# EAGLE library part NOO_AT32U2_MODULE (library PCB-Outlines)
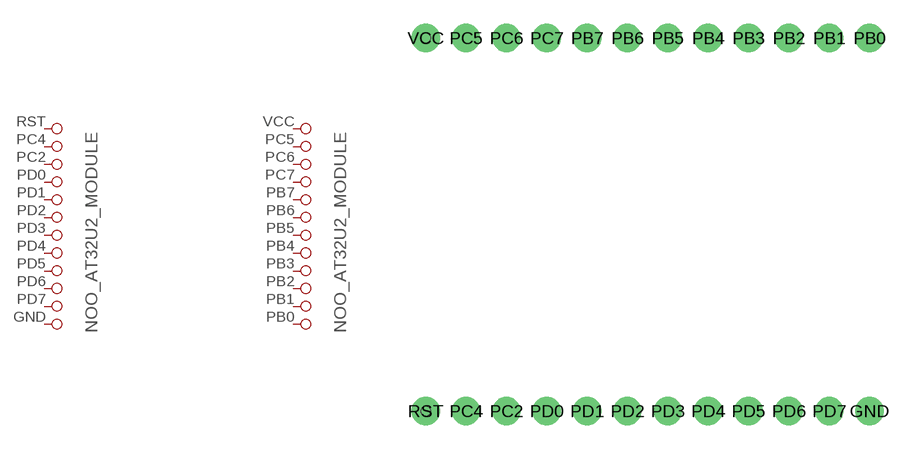
[diagram p0: symbol with the pads of NOO_AT32U2; footprint NOO_AT32U2]

Designator prefix -; gates G$1=PINHD12 G$2=PINHD12

## NOO_AT32U2_MODULE  [NOO_AT32U2]
GND  G$1:12  pas
PB0  G$2:12  pas
PB1  G$2:11  pas
PB2  G$2:10  pas
PB3  G$2:9  pas
PB4  G$2:8  pas
PB5  G$2:7  pas
PB6  G$2:6  pas
PB7  G$2:5  pas
PC2  G$1:3  pas
PC4  G$1:2  pas
PC5  G$2:2  pas
PC6  G$2:3  pas
PC7  G$2:4  pas
PD0  G$1:4  pas
PD1  G$1:5  pas
PD2  G$1:6  pas
PD3  G$1:7  pas
PD4  G$1:8  pas
PD5  G$1:9  pas
PD6  G$1:10  pas
PD7  G$1:11  pas
RST  G$1:1  pas
VCC  G$2:1  pas

## Footprint NOO_AT32U2 (pad centres in mm)
drill 0.8 pad 1.778 round: GND 32.94,1.001; PB0 32.94,24.497; PB1 30.4,24.497; PB2 27.86,24.497; PB3 25.32,24.497; PB4 22.78,24.497; PB5 20.24,24.497; PB6 17.7,24.497; PB7 15.16,24.497; PC2 10.08,1.001; PC4 7.54,1.001; PC5 7.54,24.497; PC6 10.08,24.497; PC7 12.62,24.497; PD0 12.62,1.001; PD1 15.16,1.001; PD2 17.7,1.001; PD3 20.24,1.001; PD4 22.78,1.001; PD5 25.32,1.001; PD6 27.86,1.001; PD7 30.4,1.001; RST 5,1.001; VCC 5,24.497
hole 0.6 at 5,1
hole 0.6 at 5,24.5